# Altium integrated library 416131160808.IntLib: 1 symbol
Pins are listed as number, name and electrical type; pins without a type are passive.

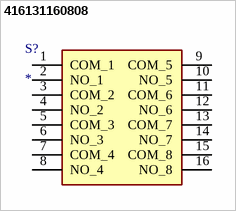
[diagram p0: symbol 416131160808]

## 416131160808
designator S?
Switch; Manufacturer_Name: Wurth Elektronik; Manufacturer_Part_Number: 416131160808; Description: 8 Way Surface Mount DIP Switch 8P; Datasheet Link: https://katalog.we-online.com/em/datasheet/4161311608xx.pdf; Height: 2mm; Mouser Part Number: 710-416131160808; Mouser Price/Stock: https://www.mouser.com/Search/Refine.aspx?Keyword=710-416131160808; RS Part Number: 7856119; RS Price/Stock: http://uk.rs-online.com/web/p/products/7856119
footprint 416131160808
pins: 1 COM_1, 2 NO_1, 3 COM_2, 4 NO_2, 5 COM_3, 6 NO_3, 7 COM_4, 8 NO_4, 9 COM_5, 10 NO_5, 11 COM_6, 12 NO_6, 13 COM_7, 14 NO_7, 15 COM_8, 16 NO_8